# Altium footprint library footprint.PcbLib: 25 footprints (part 1 of 2)
Each footprint in its own frame and in the unit in brackets; x right, y up, seen from the top. Pads: shape width x height; smd on the part's side, far side on the other; paste and mask are expansions set on the pad; w line width, h text height; cw(c..) or ccw(c..) is an arc to the next point about the centre after c.
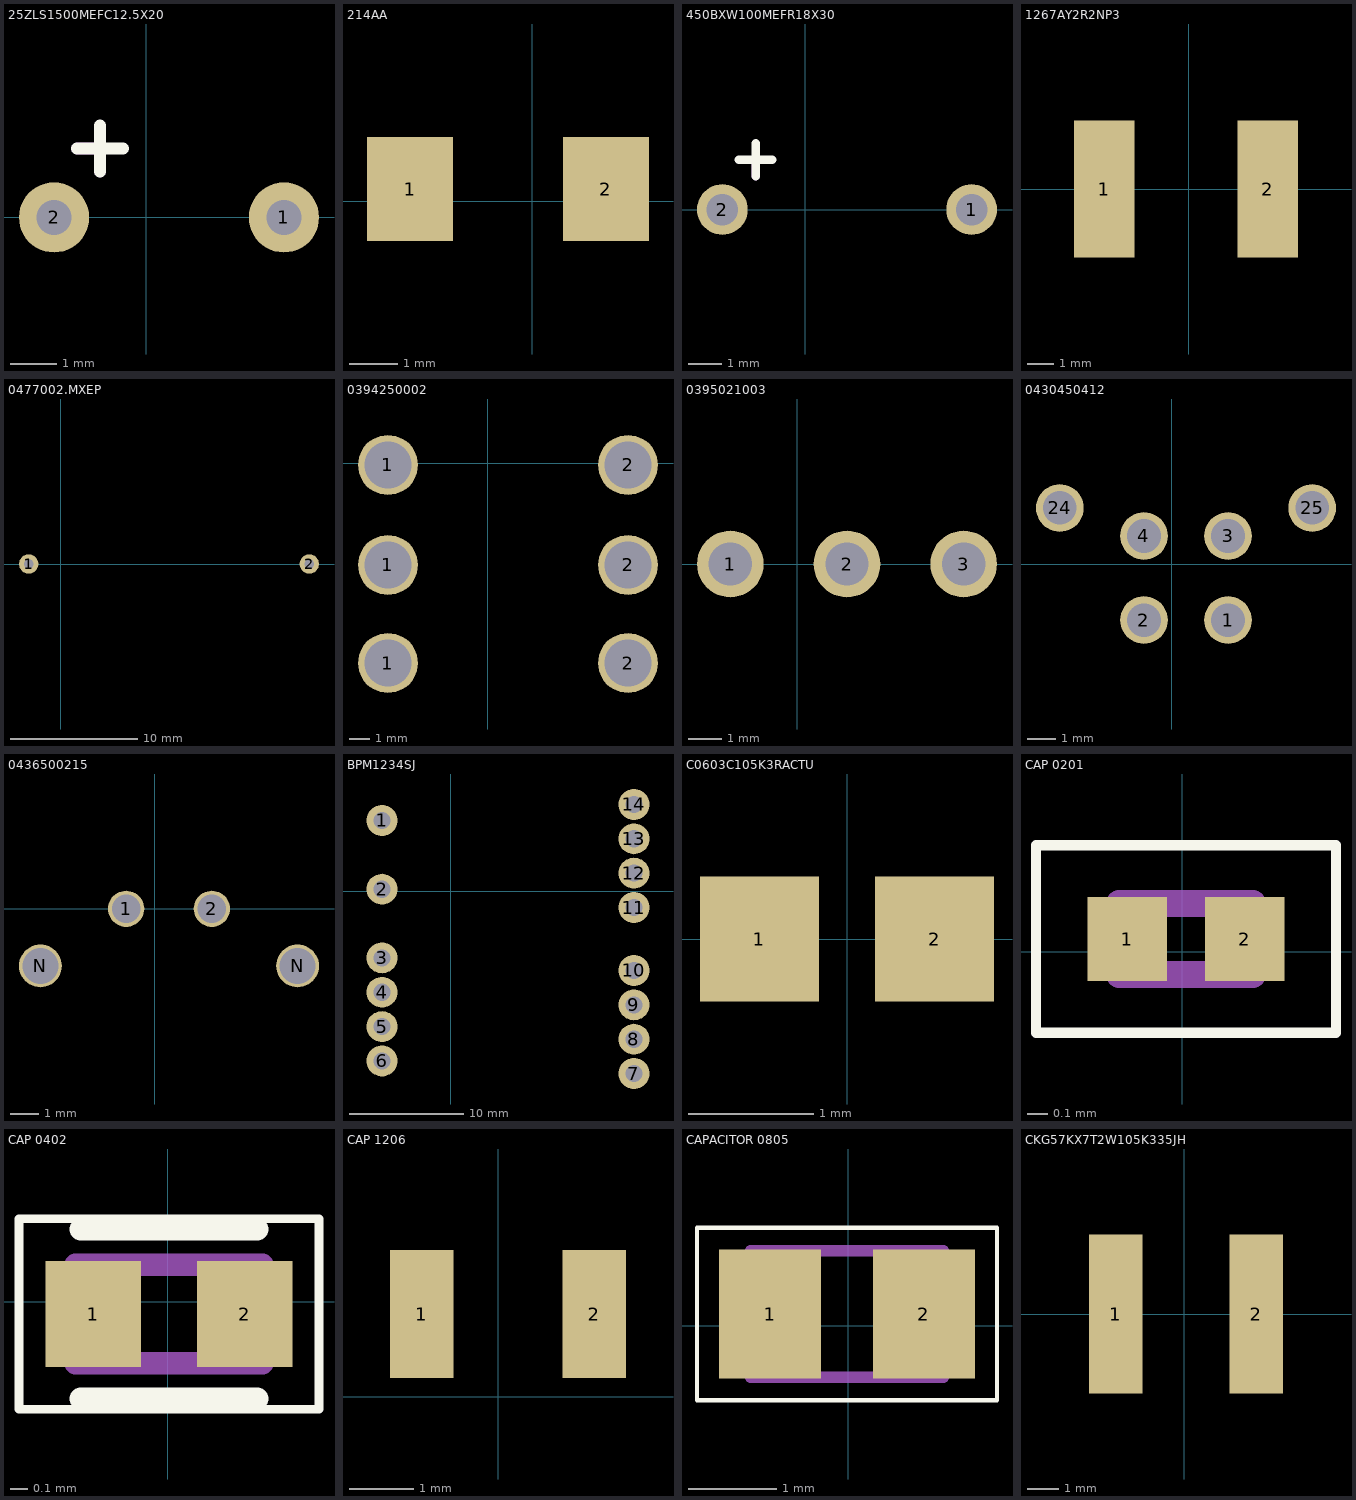
[diagram p0: the footprints below, top view; thin cyan lines are the x and y axes]

## 25ZLS1500MEFC12.5X20 [mil]
pads (2):
  round 60 hole 30: 1(118.11,0) 2(-78.74,0)
Top Overlay:
  lines w10: -59.06,59.06 -19.68,59.06 ; -39.37,39.37 -39.37,78.74
Mechanical 1:
  lines w10: -59.06,59.06 -39.37,59.06 ; -39.37,39.37 -39.37,59.06 ; -39.37,59.06 -39.37,59.06
3D body: height 787.4, standoff 0, extent -226.38,-245.94 265.75,245.94

## 214AA [mil]
pads (2):
  rect 70x85.04 smd: 1(-100,10) 2(60,10)
3D body "DO-214AA SMB.STEP": height 91.15, standoff 0.5, extent -126.3,-60 86.3,81.73

## 450BXW100MEFR18X30 [mm]
pads (2):
  round 1.524 hole 0.95: 1(5,0) 2(-2.5,0)
Top Overlay:
  lines w0.254: -2,1.5 -1.5,1.5 ; -1.5,1 -1.5,2 ; -1,1.5 -1.5,1.5 ; -1.5,1.5 -1.5,1.5
Mechanical 1:
  lines w0.254: -1.5,1 -1.5,1.5
3D body: height 30, standoff 0, extent -8.25,-9.496 10.75,9.496

## 1267AY2R2NP3 [mm]
pads (2):
  rect 2.3x5.2 smd: 1(-3.2,0) 2(3,0)
3D body: height 4, standoff 0, extent -4.25,-4.1 4.05,4.2

## 0477002.MXEP [mil] "Fuse 2A"
pads (2):
  round 60 hole 30: 1(-98.43,0) 2(767.72,0)
3D body: height 216.54, standoff 0, extent -88.58,-98.43 757.88,118.11
3D body: height 10, standoff -1350, extent 255.91,-196.85 255.91,-196.85

## 0394250002 [mm]
pads (6):
  round 3 hole 2.35: 1(-5,-10) 1(-5,-5.1) 1(-5,-0.1) 2(7,-10) 2(7,-5.1) 2(7,-0.1)
3D body "394250002.stp": height 21.35, standoff -4.31, extent -13.097,-15 15.097,19.29

## 0395021003 [mm]
pads (3):
  round 2 hole 1.3: 1(-2,0) 2(1.5,0) 3(5,0)
3D body "395021003.stp": height 6.87, standoff -3.54, extent -4.456,-1.372 7.456,7.772

## 0430450412 [mm]
pads (6):
  round 1.7 hole 1.2: 1(2,-2) 2(-1,-2) 3(2,1) 4(-1,1)
  round 1.7 hole 1.2 unplated: 24(-4,2) 25(5,2)
3D body "430450412.stp": height 9.92, standoff -3.17, extent -4.575,-4.47 5.575,4.3

## 0436500215 [mm]
pads (4):
  round 1.27 hole 1: 1(-1,0) 2(2,0)
  round 1.5 hole 1.27: N(-4,-2) N(5,-2)

## BPM1234SJ [mm] "Isolated DC-DC converter 12V"
pads (14):
  round 2.7 hole 1.5: 1(-6,6.2) 2(-6,0.2) 3(-6,-5.8) 4(-6,-8.8) 5(-6,-11.8) 6(-6,-14.8) 7(16,-15.9) 8(16,-12.9) 9(16,-9.9) 10(16,-6.9) 11(16,-1.4) 12(16,1.6) 13(16,4.6) 14(16,7.6)
3D body: height 2.01, standoff -0.12, extent -11,16 -11,16
3D body: height 23.6, standoff -0.12, extent -18.05,-20 28.45,11.7
3D body: height 2.01, standoff -0.12, extent 18.6,-20.5 18.6,-20.5

## C0603C105K3RACTU [mm]
pads (2):
  rect 0.95x1 smd: 1(-0.7,0) 2(0.7,0)
3D body "C0603C105K3RACTU.step": height 0.96, standoff 0.01, extent -0.875,-0.45 0.875,0.5

## CAP 0201 [mm]
pads (2):
  rect 0.38x0.4 smd: 1(-0.262,0.062) 2(0.3,0.062)
Top Overlay:
  lines w0.05: -0.699,-0.386 0.737,-0.386 0.737,0.51 -0.699,0.51 -0.699,-0.386
Mechanical 4:
  lines w0.127: -0.301,-0.108 -0.301,0.232 ; -0.301,-0.108 0.339,-0.108 ; -0.301,-0.108 -0.301,0.232 ; -0.301,-0.108 0.339,-0.108 ; -0.301,0.232 0.339,0.232 ; -0.301,0.232 0.339,0.232 ; 0.339,-0.108 0.339,0.232 ; 0.339,-0.108 0.339,0.232

## CAP 0402 [mm]
pads (2):
  rect 0.54x0.6 smd: 1(-0.422,-0.068) 2(0.438,-0.068)
Top Overlay:
  lines w0.05: -0.842,-0.608 -0.842,0.472 0.858,0.472 0.858,-0.608 -0.842,-0.608
  lines w0.127: -0.492,-0.548 0.508,-0.548 ; -0.492,0.412 0.508,0.412
Mechanical 4:
  lines w0.127: -0.522,-0.348 0.538,-0.348 ; -0.522,-0.348 -0.522,0.212 ; -0.522,-0.348 0.538,-0.348 ; -0.522,-0.348 -0.522,0.212 ; -0.522,0.212 0.538,0.212 ; -0.522,0.212 0.538,0.212 ; 0.538,-0.348 0.538,0.212 ; 0.538,-0.348 0.538,0.212
3D body "C0402C104K3RACTU.step": height 0.56, standoff 0.01, extent -0.55,-0.325 0.5,0.225

## CAP 1206 [mm]
pads (2):
  rect 1x2 smd: 1(-1.2,1.3) 2(1.5,1.3)
3D body "GCH3195C2A103JE01D.STEP": height 0.96, standoff 0.01, extent -1.5,0.4 1.7,2

## CAPACITOR 0805 [mm]
pads (2):
  rect 1.16x1.47 smd: 1(-0.888,0.135) 2(0.862,0.135)
Top Overlay:
  lines w0.05: -1.721,-0.848 1.695,-0.848 1.695,1.118 -1.721,1.118 -1.721,-0.848
Mechanical 4:
  lines w0.127: -1.113,-0.585 1.087,-0.585 ; -1.113,-0.585 -1.113,0.855 ; -1.113,-0.585 1.087,-0.585 ; -1.113,-0.585 -1.113,0.855 ; -1.113,0.855 1.087,0.855 ; -1.113,0.855 1.087,0.855 ; 1.087,-0.585 1.087,0.855 ; 1.087,-0.585 1.087,0.855
3D body "C0805C105K9PACTU.STEP": height 1.01, standoff 0.01, extent -1.1,-0.6 1.1,0.85

## CKG57KX7T2W105K335JH [mm]
pads (2):
  rect 1.7x5.1 smd: 1(-2.2,0) 2(2.3,0)
3D body: height 3.35, standoff 0, extent -3,-2.5 3,2.5